# Altium footprint library A.PcbLib: 19 footprints (part 2 of 2)
Each footprint in its own frame and in the unit in brackets; x right, y up, seen from the top. Pads: shape width x height; smd on the part's side, far side on the other; paste and mask are expansions set on the pad; w line width, h text height; cw(c..) or ccw(c..) is an arc to the next point about the centre after c.
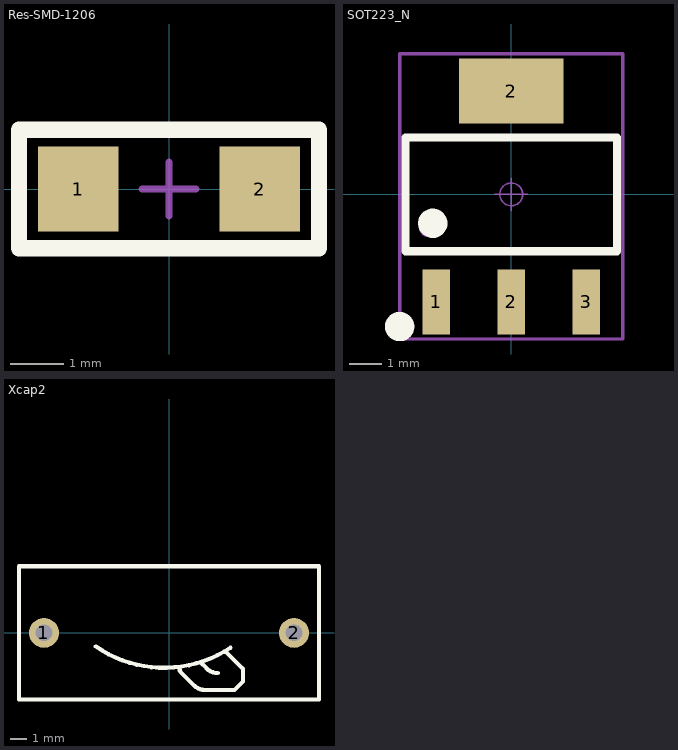
[diagram p1: the footprints below, top view; thin cyan lines are the x and y axes]

## Res-SMD-1206 [mil] "1/4W贴片电阻"
pads (2):
  rect 60x62.99 smd: 1(-67.5,0) 2(67.5,0)
Top Overlay:
  lines w12: -111.5,-44 -111.5,44 111.5,44 111.5,-44 -111.5,-44
Mechanical 15:
  lines w5: -20,0 20,0 ; 0,-20 0,20
3D body "R 1206.STEP": height 21.69, standoff -0.24, extent -62.99,-31.49 63,31.5

## SOT223_N [mm] "6.4x7x1.6mm(长宽高)"
height 1.7
pads (4):
  rect 0.85x2 smd: 1(-2.3,-3.302) 2(0,-3.302) 3(2.3,-3.302)
  rect 3.2x2 smd: 2(0,3.175)
Top Overlay:
  circle w0.5: c-2.413,-0.889 r0.2
  circle w0.5: c-3.429,-4.064 r0.2
  lines w0.25: -3.25,-1.75 -3.25,1.75 3.25,1.75 3.25,-1.75 -3.25,-1.75
Mechanical 13:
  circle w0.1: c-2.536,-1.016 r0.25
  lines w0.1: -3.25,-1.75 3.25,-1.75 3.25,1.75 -3.25,1.75 -3.25,-1.75
Mechanical 15:
  circle w0.05: c0,0 r0.35
  lines w0.05: -0.5,0 0.5,0 ; 0,-0.5 0,0.5
  lines w0.1: -3.429,-4.445 3.429,-4.445 3.429,4.318 -3.429,4.318 -3.429,-4.445
3D body "SOT223.STEP": height 1.65, standoff -0.02, extent -3.25,-3.508 3.25,3.508

## Xcap2 [mm]
pads (2):
  round 1.8 hole 1: 1(-7.5,0) 2(7.5,0)
Top Overlay:
  lines w0.254: -4.396,-0.812 ccw(c-0.3,5.085) 3.683,-0.889 ; 0.635,-2.159 ccw(c0.942,-2.159) 0.725,-2.376 1.509,-3.16 ccw(c2.159,-2.509) 2.159,-3.429 3.937,-3.429 4.445,-2.921 4.445,-2.159 3.429,-1.143 ; 1.905,-1.778 2.271,-2.144 ccw(c2.921,-1.493) 2.921,-2.413 ; -9,-4 9,-4 9,4 -9,4 -9,-4